# Altium schematic symbol library STM32 demo board.SCHLIB: 36 symbols
Pins are listed as number, name and electrical type; pins without a type are passive.

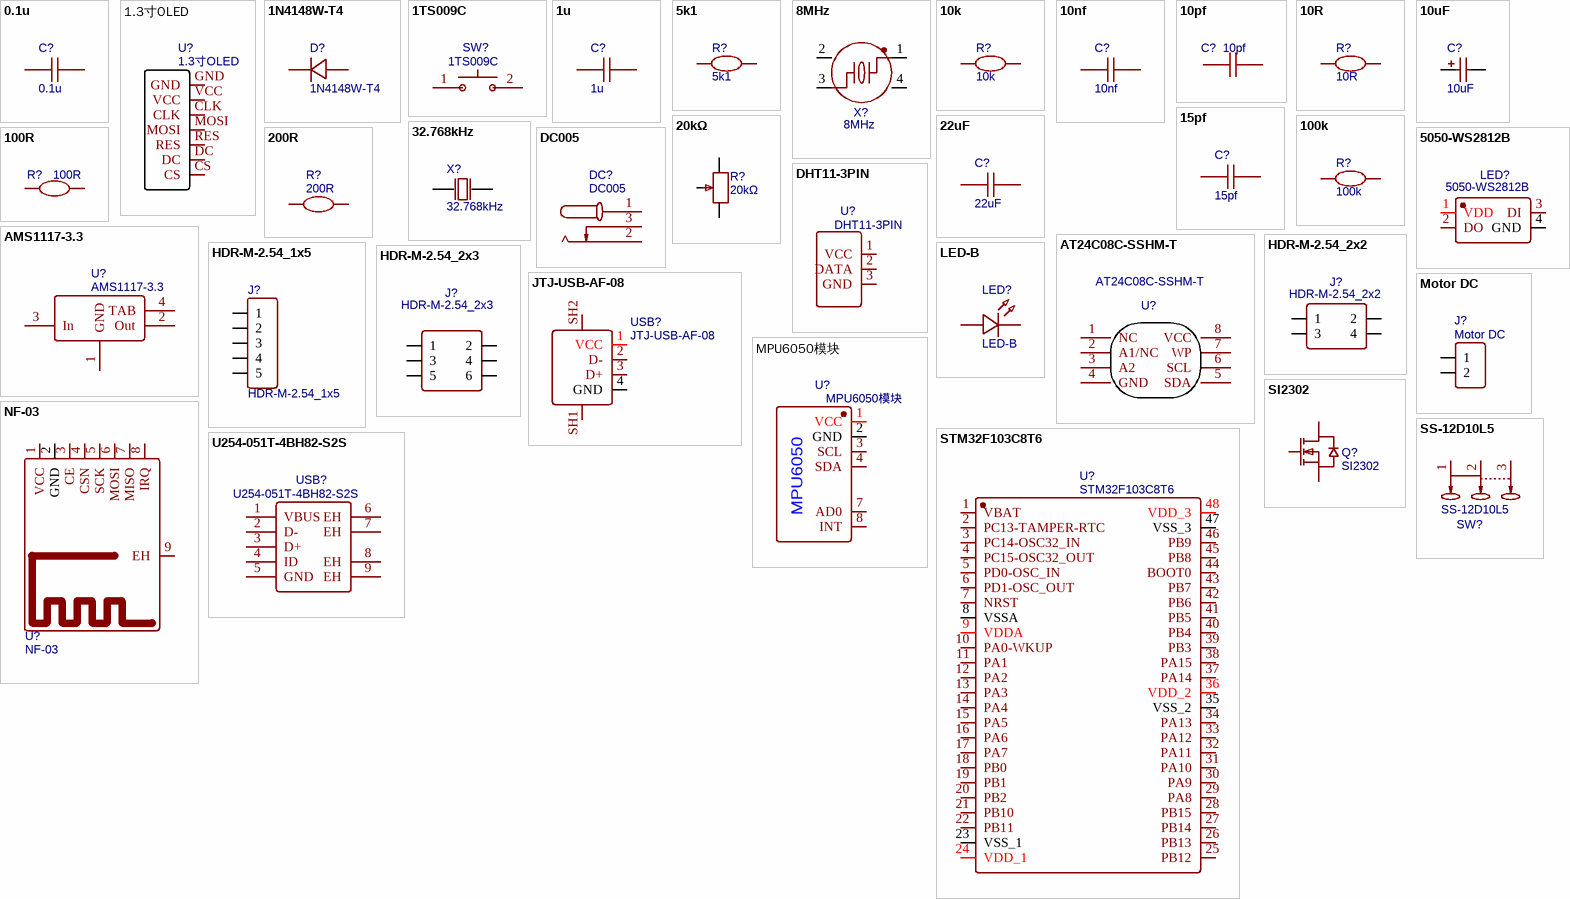
[diagram p0: symbols 0.1u to U254-051T-4BH82-S2S]

## 0.1u
designator C?
nameAlias: Value(F); Contributor: LCEDA_Lib; spicePre: C; spiceSymbolName: C_0805_US
footprint C0603
pins: 1, 2

## 1.3寸OLED
designator U?
Contributor: Biu_rao; spicePre: U; spiceSymbolName: 1.3寸OLED COPY
footprint 1.3寸OLED
pins: CLK, CS, DC, GND, MOSI, RES, VCC

## 1N4148W-T4
designator D?
BOM_Manufacturer: Guangdong Hottech; Contributor: LCSC; BOM_Supplier: LCSC; BOM_Supplier Part: C181134; BOM_Manufacturer Part: 1N4148W-T4; BOM_JLCPCB Part Class: Extended Part; spicePre: D; spiceSymbolName: 1N4148W-T4
footprint SOD-123_L2.8-W1.8-LS3.7-RD
pins: 1 C, 2 A

## 1TS009C
designator SW?
BOM_Manufacturer: HYP; BOM_Manufacturer Part: 1TS009C-2500-5000; Contributor: LCSC; BOM_Supplier: LCSC; BOM_Supplier Part: C256102; BOM_JLCPCB Part Class: Extended Part; spicePre: S; spiceSymbolName: 1TS009C-2500-5000
footprint SW-SMD_L6.0-W6.0-P6.00-LS8.0
pins: 1, 2

## 1u
designator C?
nameAlias: Value(F); Contributor: LCEDA_Lib; spicePre: C; spiceSymbolName: C_0805_US
footprint C0805
pins: 1, 2

## 5k1
designator R?
nameAlias: Value(Ω); Contributor: LCEDA_Lib; spicePre: R; spiceSymbolName: R_0805_EU
footprint R0603
pins: 1, 2

## 8MHz
designator X?
BOM_Manufacturer: Suzhou Liming Elec; BOM_Manufacturer Part: 3225-8.00-8-10-10/A; nameAlias: Frequency; Contributor: LCSC; BOM_Supplier: LCSC; BOM_Supplier Part: C518135; BOM_JLCPCB Part Class: Extended Part; spicePre: X; spiceSymbolName: 3225-8.00-8-10-10/A
footprint CRYSTAL-SMD_4P-L3.2-W2.5-BL
pins: 1, 2 GND, 3, 4 GND

## 10k
designator R?
nameAlias: Value(Ω); Contributor: LCEDA_Lib; spicePre: R; spiceSymbolName: R_0805_EU
footprint R0603
pins: 1, 2

## 10nf
designator C?
nameAlias: Value(F); Contributor: LCEDA_Lib; spicePre: C; spiceSymbolName: C_0603_US
footprint C0603
pins: 1, 2

## 10pf
designator C?
nameAlias: Value(F); Contributor: LCEDA_Lib; spicePre: C; spiceSymbolName: C_0603_US
footprint C0603
pins: 1, 2

## 10R
designator R?
nameAlias: Value(Ω); Contributor: LCEDA_Lib; spicePre: R; spiceSymbolName: R_0805_EU
footprint R0805
pins: 1, 2

## 10uF
designator C?
BOM_Manufacturer: AVX; BOM_Manufacturer Part: TAJB106M020RNJ; nameAlias: Capacitance; BOM_Supplier: LCSC; BOM_Supplier Part: C99353; BOM_JLCPCB Part Class: Extended Part; spicePre: C; spiceSymbolName: TAJB106M020RNJ
footprint CAP-SMD_L3.5-W2.8
pins: 1, 2

## 15pf
designator C?
nameAlias: Value(F); Contributor: LCEDA_Lib; spicePre: C; spiceSymbolName: C_0603_US
footprint C0603
pins: 1, 2

## 20kΩ
designator R?
BOM_Manufacturer: Chengdu Guosheng Tech; BOM_Manufacturer Part: 3296W-1-203; Resistance(Ohms): 20K; nameAlias: Resistance; Contributor: LCSC; BOM_Supplier: LCSC; BOM_Supplier Part: C330433; Resistance (Ohms): 20K; BOM_JLCPCB Part Class: Extended Part; spicePre: R; spiceSymbolName: 3296W-1-203_C330433
footprint RES-ADJ-TH_3296W-1-203
pins: 1, 2, 3

## 22uF
designator C?
BOM_Manufacturer: Samsung Electro-Mechanics; BOM_Manufacturer Part: CL21A226MAYNNNE; nameAlias: Capacitance; Contributor: LCSC; BOM_Supplier: LCSC; BOM_Supplier Part: C602037; BOM_JLCPCB Part Class: Extended Part; spicePre: C; spiceSymbolName: CL21A226MAYNNNE
footprint C0805
pins: 1, 2

## 32.768kHz
designator X?
BOM_Manufacturer: HCI(杭晶); BOM_Manufacturer Part: FL38T2-32.768-NTLLLDT; nameAlias: Frequency; Contributor: LCSC; BOM_Supplier: LCSC; BOM_Supplier Part: C2848215; spicePre: X; spiceSymbolName: FL38T2-32.768-NTLLLDT
footprint OSC-TH_BD3.1-P0.8-D0.3
pins: 1 OSC1, 2 OSC2

## 100k
designator R?
nameAlias: Value(Ω); Contributor: LCEDA_Lib; spicePre: R; spiceSymbolName: R_0603_EU
footprint R0603
pins: 1, 2

## 100R
designator R?
nameAlias: Value(Ω); Contributor: LCEDA_Lib; spicePre: R; spiceSymbolName: R_0603_EU
footprint R0603
pins: 1, 2

## 200R
designator R?
nameAlias: Value(Ω); Contributor: LCEDA_Lib; spicePre: R; spiceSymbolName: R_0805_EU
footprint R0805
pins: 1, 2

## 5050-WS2812B
designator LED?
BOM_Manufacturer: XINGLIGHT(成兴光); BOM_Manufacturer Part: XL-5050RGBC-WS2812B; Contributor: LCSC; BOM_Supplier: LCSC; BOM_Supplier Part: C2843785; BOM_JLCPCB Part Class: Extended Part; spicePre: L; spiceSymbolName: XL-5050RGBC-WS2812B
footprint LED-SMD_4P-L5.0-W5.0-BL_XL-5050RGBC
pins: 1 VDD, 2 DO, 3 DI, 4 GND

## AMS1117-3.3
designator U?
BOM_Manufacturer: SK; Contributor: LCSC; BOM_Supplier: LCSC; BOM_Supplier Part: C165482; BOM_Manufacturer Part: AMS1117-3.3; BOM_JLCPCB Part Class: Extended Part; spicePre: U; spiceSymbolName: AMS1117-3.3_C165482
footprint SOT-223_L6.5-W3.5-P2.30-LS7.0-BR
pins: 1 GND, 2 Out, 3 In, 4 TAB

## AT24C08C-SSHM-T
designator U?
BOM_Manufacturer: MICROCHIP; BOM_Supplier: LCSC; BOM_Manufacturer Part: AT24C08C-SSHM-T; BOM_Supplier Part: C31422; BOM_JLCPCB Part Class: Extended Part; spicePre: U; spiceSymbolName: AT24C08C-SSHM-T
footprint SOIC-8_L5.0-W4.0-P1.27-LS6.0-BL
pins: 1 NC, 2 A1/NC, 3 A2, 4 GND, 5 SDA, 6 SCL, 7 WP, 8 VCC

## DC005
designator DC?
BOM_Manufacturer: SHOU HAN; Contributor: LCSC; BOM_Supplier: LCSC; BOM_Supplier Part: C431533; BOM_Manufacturer Part: DC005; BOM_JLCPCB Part Class: Extended Part; spicePre: D; spiceSymbolName: DC005_C431533
footprint DC-IN-TH_DC005
pins: 1, 2, 3

## DHT11-3PIN
designator U?
Contributor: Congs.Chen; spicePre: U; spiceSymbolName: DHT11-3PIN
footprint DHT11-3PIN
pins: 1 VCC, 2 DATA, 3 GND

## HDR-M-2.54_1x5
designator J?
Contributor: LCEDA_Lib; BOM_Supplier Part: C358687; BOM_Supplier: LCSC; spicePre: J; spiceSymbolName: HDR-M-2.54_1x5
footprint HDR-M-2.54_1X5
pins: 1, 2, 3, 4, 5

## HDR-M-2.54_2x2
designator J?
Contributor: LCEDA_Lib; BOM_Supplier Part: C66690; BOM_Supplier: LCSC; spicePre: J; spiceSymbolName: HDR-M-2.54_2x2
footprint HDR-M-2.54_2X2
pins: 1, 2, 3, 4

## HDR-M-2.54_2x3
designator J?
Contributor: LCEDA_Lib; BOM_Supplier Part: C65114; BOM_Supplier: LCSC; spicePre: J; spiceSymbolName: HDR-M-2.54_2x3
footprint HDR-M-2.54_2X3
pins: 1, 2, 3, 4, 5, 6

## JTJ-USB-AF-08
designator USB?
Contributor: LCSC; BOM_Supplier: LCSC; BOM_Manufacturer Part: JTJ-USB-AF-08; BOM_Supplier Part: C2345; BOM_JLCPCB Part Class: Extended Part; spicePre: U; spiceSymbolName: JTJ-USB-AF-08
footprint USB-A-TH__USB-AF-90
pins: 1 VCC, 2 D-, 3 D+, 4 GND, SH1, SH2

## LED-B
designator LED?
BOM_Manufacturer: EVERLIGHT(台湾亿光); BOM_Manufacturer Part: 19-217/BHC-ZL1M2RY/3T; Contributor: LCEDA_01; BOM_Supplier Part: C72041; BOM_Supplier: LCSC; spicePre: L; spiceSymbolName: LED-0603_B
footprint LED0603_BLUE
pins: 1, 2

## Motor DC
designator J?
Contributor: LCEDA_Lib; BOM_Supplier Part: C124375; BOM_Supplier: LCSC; spicePre: J; spiceSymbolName: HDR-M-2.54_1x2
footprint HDR-M-2.54_1X2
pins: 1, 2

## MPU6050模块
designator U?
Contributor: aoji.zhu; spicePre: U; spiceSymbolName: MPU6050模块 COPY
footprint MPU6050模块
pins: 1 VCC, 2 GND, 3 SCL, 4 SDA, 7 AD0, 8 INT
text: MPU6050

## NF-03
designator U?
BOM_Manufacturer: Ai-Thinker(安信可); Contributor: lcsc; BOM_Supplier: LCSC; BOM_Supplier Part: C115101; BOM_Manufacturer Part: NF-03; link: https://atta.szlcsc.com/upload/public/pdf/source/20180412/C115101_9BA24B501AB1D00CD0E5D6E44E81803D.pdf; BOM_JLCPCB Part Class: Extended Part; spicePre: U; spiceSymbolName: NF-03
footprint WIRELM-SMD_AI-THINKER_NF-03
pins: 1 VCC, 2 GND, 3 CE, 4 CSN, 5 SCK, 6 MOSI, 7 MISO, 8 IRQ, 9 EH

## SI2302
designator Q?
BOM_Manufacturer: TECH PUBLIC(台舟); Contributor: LCSC; BOM_Supplier: LCSC; BOM_Supplier Part: C2841377; BOM_Manufacturer Part: SI2302; BOM_JLCPCB Part Class: Extended Part; spicePre: Q; spiceSymbolName: SI2302_C2841377
footprint SOT-23-3_L2.9-W1.3-P1.90-LS2.4-BR
pins: 1 G, 2 S, 3 D

## SS-12D10L5
designator SW?
BOM_Manufacturer: XKB Enterprise; Contributor: LCSC; BOM_Supplier: LCSC; BOM_Supplier Part: C319012; BOM_Manufacturer Part: SS-12D10L5; BOM_JLCPCB Part Class: Extended Part; spicePre: S; spiceSymbolName: SS-12D10L5
footprint SW-TH_SS-12D10L5
pins: 1, 2, 3

## STM32F103C8T6
designator U?
BOM_Manufacturer: STMicroelectronics; timeStamp: 1455028086; BOM_Supplier: LCSC; BOM_Manufacturer Part: STM32F103C8T6; BOM_Supplier Part: C8734; BOM_JLCPCB Part Class: Basic Part; spicePre: U; spiceSymbolName: STM32F103C8T6
footprint LQFP-48_L7.0-W7.0-P0.50-LS9.0-BL
pins: 1 VBAT, 2 PC13-TAMPER-RTC, 3 PC14-OSC32_IN, 4 PC15-OSC32_OUT, 5 PD0-OSC_IN, 6 PD1-OSC_OUT, 7 NRST, 8 VSSA, 9 VDDA, 10 PA0-WKUP, 11 PA1, 12 PA2, 13 PA3, 14 PA4, 15 PA5, 16 PA6, 17 PA7, 18 PB0, 19 PB1, 20 PB2, 21 PB10, 22 PB11, 23 VSS_1, 24 VDD_1, 25 PB12, 26 PB13, 27 PB14, 28 PB15, 29 PA8, 30 PA9, 31 PA10, 32 PA11, 33 PA12, 34 PA13, 35 VSS_2, 36 VDD_2, 37 PA14, 38 PA15, 39 PB3, 40 PB4, 41 PB5, 42 PB6, 43 PB7, 44 BOOT0, 45 PB8, 46 PB9, 47 VSS_3, 48 VDD_3

## U254-051T-4BH82-S2S
designator USB?
BOM_Manufacturer: XKB Connectivity(中国星坤); Contributor: LCSC; BOM_Supplier: LCSC; BOM_Supplier Part: C908456; BOM_Manufacturer Part: U254-051T-4BH82-S2S; BOM_JLCPCB Part Class: Extended Part; spicePre: U; spiceSymbolName: U254-051T-4BH82-S2S
footprint MICRO-USB-SMD_U254-051T-4BH82-S2S
pins: 1 VBUS, 2 D-, 3 D+, 4 ID, 5 GND, 6 EH, 7 EH, 8 EH, 9 EH